# Altium footprint library mrsl.PcbLib: 215 footprints (part 1 of 14)
Each footprint in its own frame and in the unit in brackets; x right, y up, seen from the top. Pads: shape width x height; smd on the part's side, far side on the other; paste and mask are expansions set on the pad; w line width, h text height; cw(c..) or ccw(c..) is an arc to the next point about the centre after c.
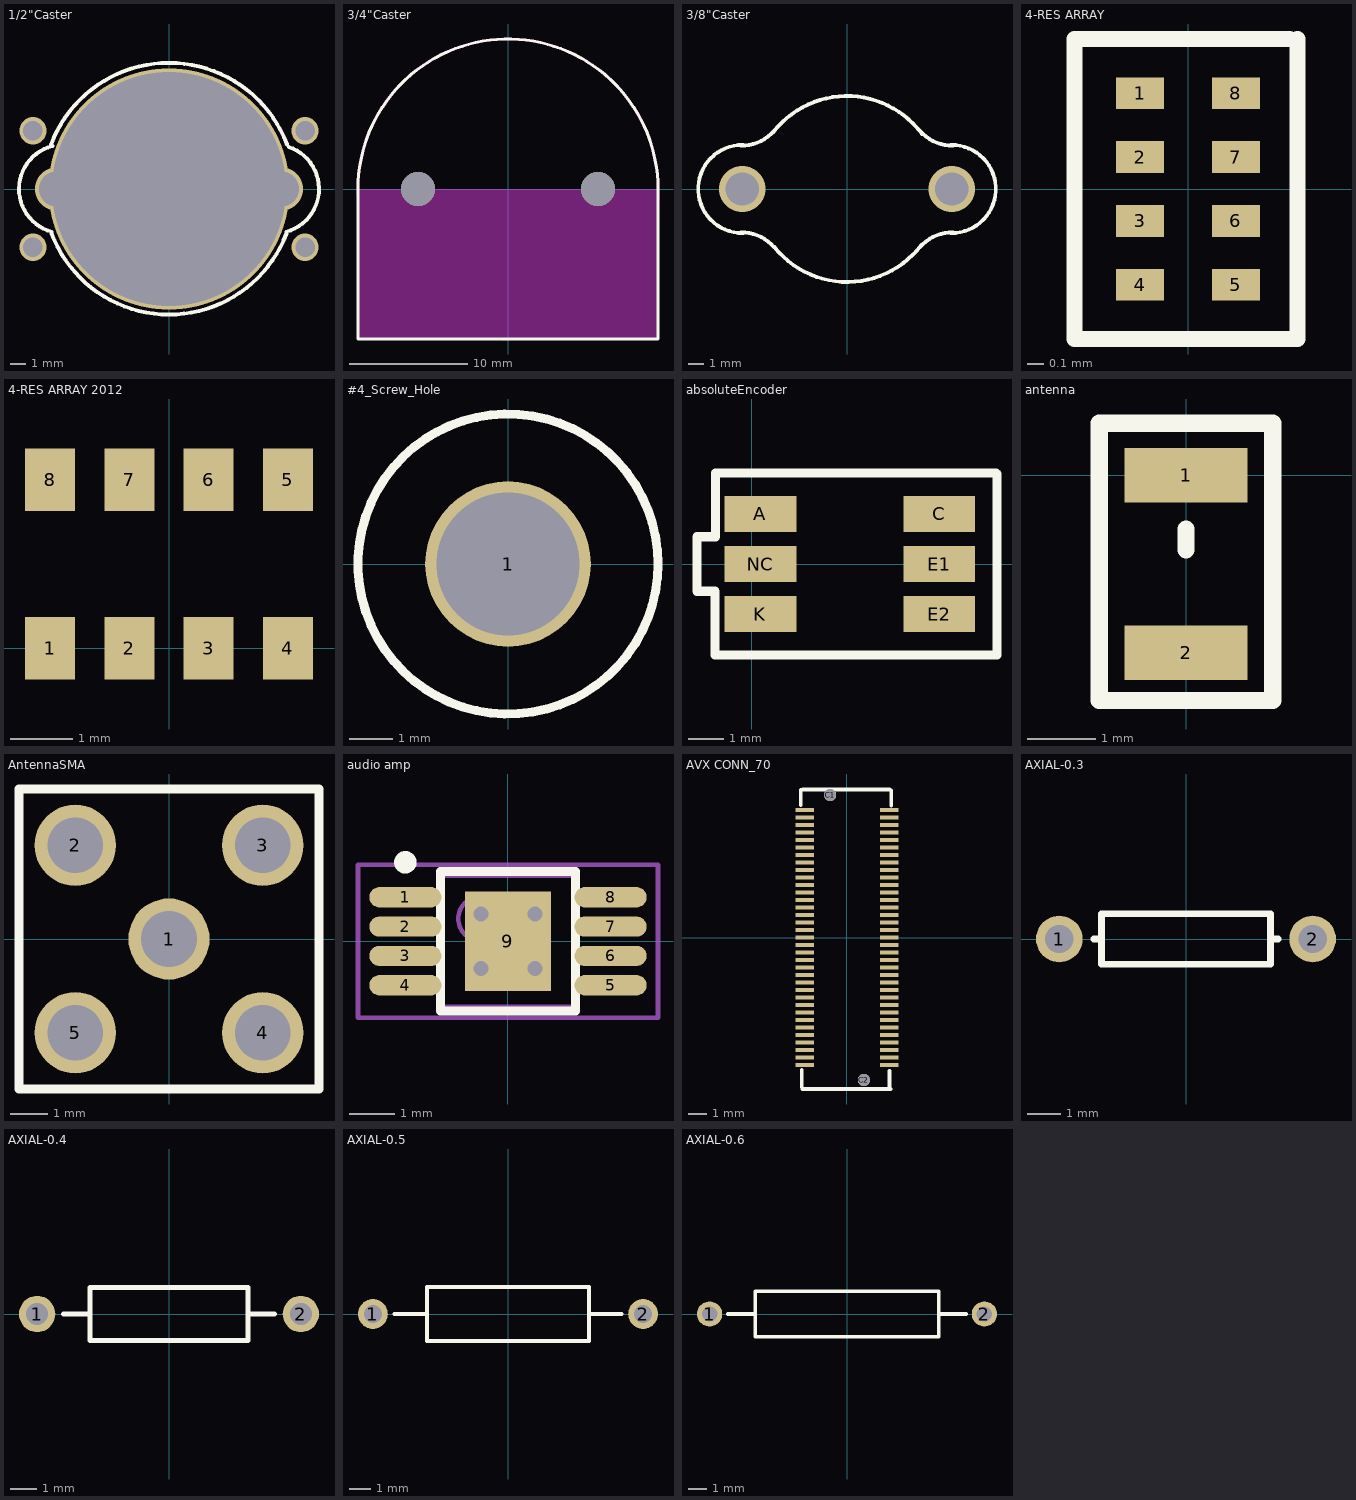
[diagram p0: the footprints below, top view; thin cyan lines are the x and y axes]

## 1/2"Caster [mm] "1/2\" caster for board"
via -8.89,-3.81 diameter 1.778 hole 1.27
via 8.89,-3.81 diameter 1.778 hole 1.27
via 8.89,3.81 diameter 1.778 hole 1.27
via -7.366,0 diameter 2.794 hole 2.286
via 7.366,0 diameter 2.794 hole 2.286
via 0,0 diameter 15.748 hole 15.316
via -8.89,3.81 diameter 1.778 hole 1.27
Top Overlay:
  lines w0.254: -7.705,2.921 cw(c0,0) 7.708,2.912 ; -7.679,-2.889 ccw(c0,0) 7.673,-2.906 ; -7.671,-2.796 cw(c-6.9,0) -7.617,2.81 ; 7.669,-2.796 ccw(c6.9,0) 7.825,2.749

## 3/4"Caster [mm] "3/4\" caster for board"
height 20.32
via 7.62,0 diameter 2.845 hole 2.845
via -7.62,0 diameter 2.845 hole 2.845
Top Overlay:
  lines w0.254: -12.7,-12.7 -12.7,0 cw(c0,0) 12.7,0 12.7,-12.7 -12.7,-12.7
Keep-Out Layer:
  rectangle: -12.7,-12.7 12.7,0
Drill Drawing keep-out:
  circle w0.254: c0,0 r12.7

## 3/4"CASTER2 [mm] "3/4\" caster for board"
via 0,0 diameter 23.241 hole 23.241
via 11.43,0 diameter 4.445 hole 4.445
via -11.43,0 diameter 4.445 hole 4.445

## 3/8"Caster [mm] "3/8\" caster for board"
via -6.9,0 diameter 3.048 hole 2.2
via 6.9,0 diameter 3.048 hole 2.2
Top Overlay:
  lines w0.254: -6.984,-2.845 cw(c-6.984,-5.74) -4.826,-3.81 ; -6.984,2.845 ccw(c-6.984,5.74) -4.826,3.81 ; -6.86,-2.9 cw(c-6.9,0) -6.852,2.9 ; -4.835,3.76 cw(c0,0) 4.931,3.633 ; -4.783,-3.826 ccw(c0,0) 4.9,-3.675 ; 4.826,-3.81 cw(c6.984,-5.74) 6.984,-2.845 ; 4.826,3.81 ccw(c6.984,5.74) 6.984,2.845 ; 6.856,2.9 cw(c6.9,0) 6.86,-2.9

## 4-RES ARRAY [mm]
pads (8):
  rect 0.3x0.2 smd mask+0.05: 1(-0.3,0.6) 2(-0.3,0.2) 3(-0.3,-0.2) 4(-0.3,-0.6) 5(0.3,-0.6) 6(0.3,-0.2) 7(0.3,0.2) 8(0.3,0.6)
Top Overlay:
  lines w0.1: -0.711,0.94 -0.711,-0.94 0.66,-0.94 ; -0.686,0.94 0.635,0.94 ; 0.686,-0.94 0.686,0.94

## 4-RES ARRAY 2012 [mm] "8-pin 2012 convex package for a 4 resistor array"
height 0.55
pads (8):
  rect 0.8x1 smd: 1(-1.905,0) 2(-0.635,0) 3(0.635,0) 4(1.905,0) 5(1.905,2.7) 6(0.635,2.7) 7(-0.635,2.7) 8(-1.905,2.7)
3D body: height 0.55, standoff 0.45, extent -2.21,0 2.235,2.692

## #4_Screw_Hole [mil] "#4 Screw Hole, 3.2766mm Hole Dia., Plated"
pads (1):
  round 149 hole 129: 1(0,0)
Top Overlay:
  circle w8: c0,0 r135

## absoluteEncoder [mm] "Absolute Encoder EE-SX1131"
height 4
pads (6):
  rect 2x1 smd: A(0.25,1.4) C(5.25,1.4) E1(5.25,0) E2(5.25,-1.4) K(0.25,-1.4) NC(0.25,0)
Top Overlay:
  lines w0.254: 6.858,-2.54 -1.02,-2.54 -1.02,-0.762 -1.524,-0.762 -1.524,0.762 -1.01,0.762 -1.01,2.54 6.833,2.54 6.858,2.515 6.858,-2.032 6.858,-2.515

## antenna [mm] "Radio Antenna"
pads (2):
  rect 1.8x0.8 smd: 1(0,0) 2(0,-2.6)
Top Overlay:
  lines w0.254: 0,-1.092 0,-0.787 ; -1.27,-3.302 1.27,-3.302 1.27,0.762 -1.27,0.762 -1.27,-3.302

## AntennaSMA [mm] "antenna for radios , tyco 108-11200"
pads (5):
  round 2.2 hole 1.511: 1(0,0) 2(-2.54,2.54) 3(2.54,2.54) 4(2.54,-2.54) 5(-2.54,-2.54)
Top Overlay:
  lines w0.254: -4.064,-4.064 -4.064,4.064 4.064,4.064 4.064,-4.064 -4.064,-4.064

## audio amp [mm]
height 1.1
pads (9):
  oval 1.6x0.45 smd: 1(-2.275,0.975) 2(-2.275,0.325) 3(-2.275,-0.325) 4(-2.275,-0.975) 5(2.275,-0.975) 6(2.275,-0.325) 7(2.275,0.325) 8(2.275,0.975)
  rect 1.9x2.2 smd: 9(0,0)
via 0.6,-0.6 diameter 0.66 hole 0.33
via -0.6,-0.6 diameter 0.66 hole 0.33
via 0.6,0.6 diameter 0.66 hole 0.33
via -0.6,0.6 diameter 0.66 hole 0.33
Top Overlay:
  circle w0.25: c-2.275,1.75 r0.125
  lines w0.2: -1.5,-1.55 1.5,-1.55 1.5,1.55 -1.5,1.55 -1.5,-1.55
Mechanical 13:
  circle w0.1: c-0.6,0.5 r0.5
  lines w0.1: -1.55,-1.45 1.55,-1.45 1.55,1.45 -1.55,1.45 -1.55,-1.45
Mechanical 15:
  lines w0.1: -0.5,0 0.5,0 ; 0,-0.5 0,0.5 ; -3.325,-1.7 3.325,-1.7 3.325,1.7 -3.325,1.7 -3.325,-1.7
3D body: height 1.1, standoff 0.1, extent -1.55,-1.45 1.55,1.45

## AVX CONN_70 [mm]
pads (72):
  rect 1x0.23 smd: 1(-2.25,6.8) 2(-2.25,6.4) 3(-2.25,6) 4(-2.25,5.6) 5(-2.25,5.2) 6(-2.25,4.8) 7(-2.25,4.4) 8(-2.25,4) 9(-2.25,3.6) 10(-2.25,3.2) 11(-2.25,2.8) 12(-2.25,2.4) 13(-2.25,2) 14(-2.25,1.6) 15(-2.25,1.2) 16(-2.25,0.8) 17(-2.25,0.4) 18(-2.25,0) 19(-2.25,-0.4) 20(-2.25,-0.8) 21(-2.25,-1.2) 22(-2.25,-1.6) 23(-2.25,-2) 24(-2.25,-2.4) 25(-2.25,-2.8) 26(-2.25,-3.2) 27(-2.25,-3.6) 28(-2.25,-4) 29(-2.25,-4.4) 30(-2.25,-4.8) 31(-2.25,-5.2) 32(-2.25,-5.6) 33(-2.25,-6) 34(-2.25,-6.4) 35(-2.25,-6.8) 36(2.25,-6.8) 37(2.25,-6.4) 38(2.25,-6) 39(2.25,-5.6) 40(2.25,-5.2) 41(2.25,-4.8) 42(2.25,-4.4) 43(2.25,-4) 44(2.25,-3.6) 45(2.25,-3.2) 46(2.25,-2.8) 47(2.25,-2.4) 48(2.25,-2) 49(2.25,-1.6) 50(2.25,-1.2) 51(2.25,-0.8) 52(2.25,-0.4) 53(2.25,0) 54(2.25,0.4) 55(2.25,0.8) 56(2.25,1.2) 57(2.25,1.6) 58(2.25,2) 59(2.25,2.4) 60(2.25,2.8) 61(2.25,3.2) 62(2.25,3.6) 63(2.25,4) 64(2.25,4.4) 65(2.25,4.8) 66(2.25,5.2) 67(2.25,5.6) 68(2.25,6) 69(2.25,6.4) 70(2.25,6.8)
  round 0.65 hole 0.65: C1(-0.9,7.6) C2(0.9,-7.6)
Top Overlay:
  lines w0.2: -2.464,7.061 -2.464,7.874 ; -2.413,-7.976 -2.413,-7.061 ; -2.388,-8.077 2.337,-8.077 ; -2.362,7.899 2.286,7.899 ; 2.261,-7.976 2.261,-7.112 ; 2.362,7.036 2.362,7.849

## AXIAL-0.3 [mm] "Axial Device, Thru-Hole; 2 Leads; 0.3 in Pin Spacing"
height 1.524
pads (2):
  round 1.4 hole 0.85: 1(-3.81,0) 2(3.81,0)
Top Overlay:
  lines w0.2: -2.769,0 -2.54,0 ; 2.769,0 2.54,0 ; 2.54,0 2.54,-0.762 -2.54,-0.762 -2.54,0.762 2.54,0.762 2.54,0

## AXIAL-0.4 [mm] "Axial Device, Thru-Hole; 2 Leads; 0.4 in Pin Spacing"
height 2.032
pads (2):
  round 1.4 hole 0.85: 1(-5.08,0) 2(5.08,0)
Top Overlay:
  lines w0.2: -4.064,0 -3.048,0 ; 3.048,0 4.064,0 ; -3.048,-1.016 -3.048,1.016 3.048,1.016 3.048,-1.016 -3.048,-1.016

## AXIAL-0.5 [mm] "Axial Device, Thru-Hole; 2 Leads; 0.5 in Pin Spacing"
height 2.54
pads (2):
  round 1.4 hole 0.85: 1(-6.35,0) 2(6.35,0)
Top Overlay:
  lines w0.2: -5.334,0 -3.81,0 ; 3.81,0 5.334,0 ; -3.81,-1.27 -3.81,1.27 3.81,1.27 3.81,-1.27 -3.81,-1.27

## AXIAL-0.6 [mm] "Axial Device, Thru-Hole; 2 Leads; 0.6 in Pin Spacing"
height 2.54
pads (2):
  round 1.4 hole 0.85: 1(-7.62,0) 2(7.62,0)
Top Overlay:
  lines w0.2: -6.604,0 -5.08,0 ; 5.08,0 6.604,0 ; -5.08,-1.27 -5.08,1.27 5.08,1.27 5.08,-1.27 -5.08,-1.27